# Altium footprint library RC_SMD_3D.PcbLib: 33 footprints (part 3 of 3)
Each footprint in its own frame and in the unit in brackets; x right, y up, seen from the top. Pads: shape width x height; smd on the part's side, far side on the other; paste and mask are expansions set on the pad; w line width, h text height; cw(c..) or ccw(c..) is an arc to the next point about the centre after c.
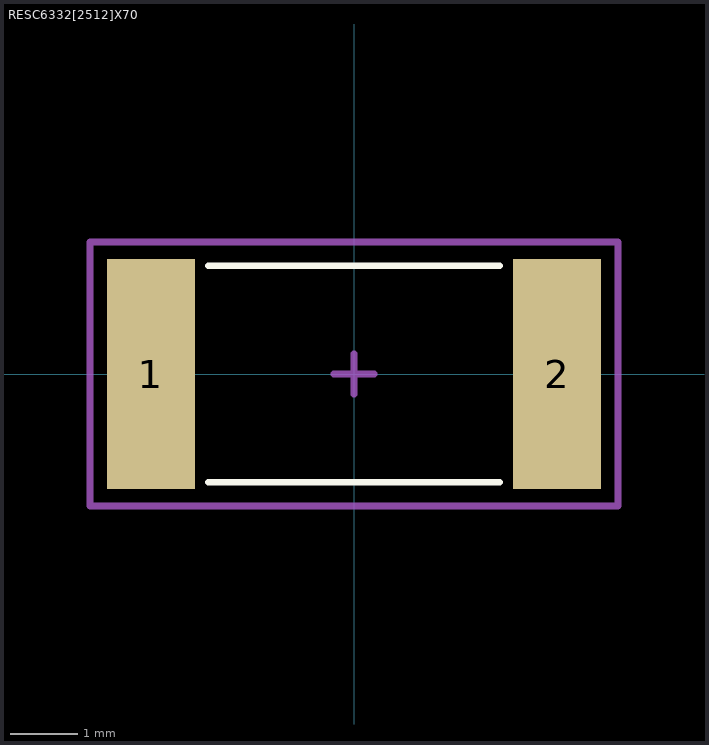
[diagram p2: the footprint, top view; thin cyan lines are the x and y axes]

## RESC6332[2512]X70 [mm] "Chip Resistor; 6.3x3.2mm"
height 0.7
pads (2):
  rect 1.3x3.4 smd: 1(-3,0) 2(3,0)
Top Overlay:
  lines w0.1: -2.15,-1.6 2.15,-1.6 ; -2.15,1.6 2.15,1.6
Courtyard (15):
  lines w0.1: -0.3,0 0.3,0 ; 0,-0.3 0,0.3 ; -3.9,-1.95 -3.9,1.95 3.9,1.95 3.9,-1.95 -3.9,-1.95
3D body: height 0.7, standoff 0, extent 2.45,-1.6 3.15,1.6
3D body: height 0.7, standoff 0, extent -2.45,-1.6 2.45,1.6
3D body: height 0.7, standoff 0, extent -3.15,-1.6 -2.45,1.6